# EAGLE library part CH340G (library MTS-OTR_Custom)
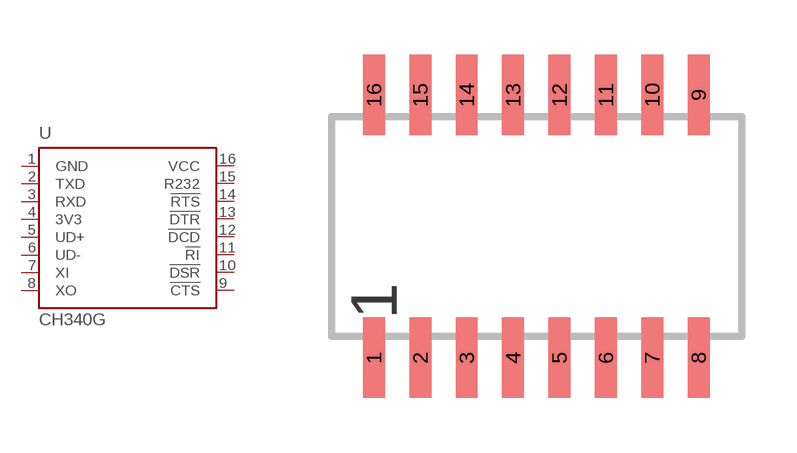
[diagram p20: symbol with the pads of SO16; footprint SO16]

Designator prefix -

## CH340GSO16  [SO16]
1  GND  pwr
2  TXD  out
3  RXD  in
4  3V3  out
5  UD+  in
6  UD-  in
7  XI
8  XO
9  !CTS  in
10  !DSR  in
11  !RI  pwr
12  !DCD
13  !DTR  pwr
14  !RTS  out
15  R232
16  VCC  pwr

## Footprint SO16 (pad centres in mm)
SMALL OUTLINE PACKAGE
smd 0.6 x 2.2: 1 -4.445,-3.6; 2 -3.175,-3.6; 3 -1.905,-3.6; 4 -0.635,-3.6; 5 0.635,-3.6; 6 1.905,-3.6; 7 3.175,-3.6; 8 4.445,-3.6; 9 4.445,3.6; 10 3.175,3.6; 11 1.905,3.6; 12 0.635,3.6; 13 -0.635,3.6; 14 -1.905,3.6; 15 -3.175,3.6; 16 -4.445,3.6